# EAGLE library part AEM10330 (library AEM10330-EAGLE)
Ambient Energy Manager from e-peas
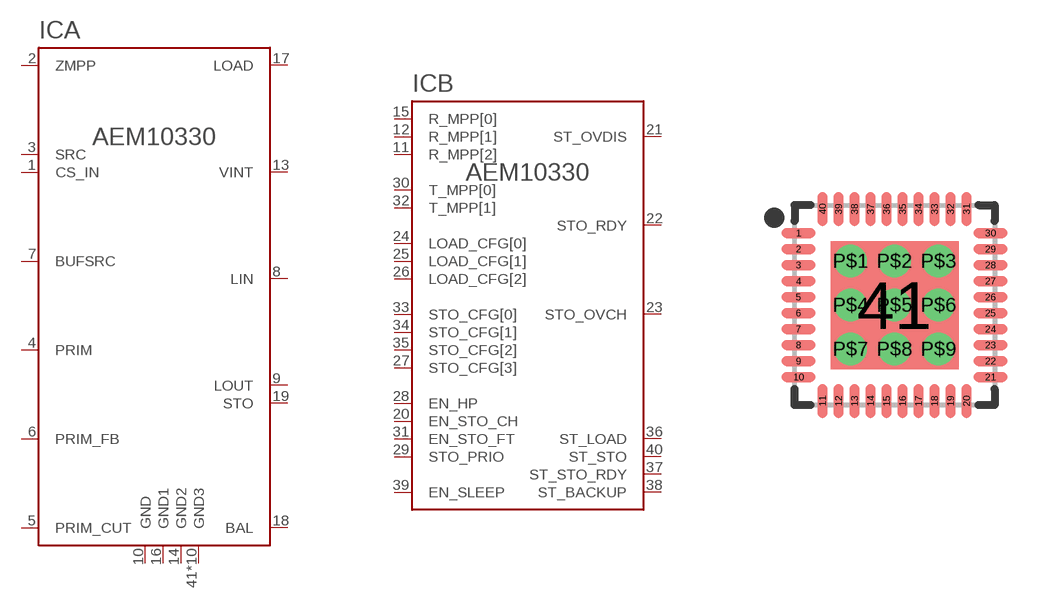
[diagram p0: symbol with the pads of QFN40P5X5; footprint QFN40P5X5]

Designator prefix IC; gates A=AEM10330_A B=AEM10330_B

## AEM10330  [QFN40P5X5]
1  A:CS_IN
2  A:ZMPP
3  A:SRC
4  A:PRIM
5  A:PRIM_CUT
6  A:PRIM_FB
7  A:BUFSRC
8  A:LIN
9  A:LOUT
10  A:GND
11  B:R_MPP[2]
12  B:R_MPP[1]
13  A:VINT
14  A:GND2
15  B:R_MPP[0]
16  A:GND1
17  A:LOAD
18  A:BAL
19  A:STO
20  B:EN_STO_CH
21  B:ST_OVDIS
22  B:STO_RDY
23  B:STO_OVCH
24  B:LOAD_CFG[0]
25  B:LOAD_CFG[1]
26  B:LOAD_CFG[2]
27  B:STO_CFG[3]
28  B:EN_HP
29  B:STO_PRIO
30  B:T_MPP[0]
31  B:EN_STO_FT
32  B:T_MPP[1]
33  B:STO_CFG[0]
34  B:STO_CFG[1]
35  B:STO_CFG[2]
36  B:ST_LOAD
37  B:ST_STO_RDY
38  B:ST_BACKUP
39  B:EN_SLEEP
40  B:ST_STO
41  A:GND3
P$1  A:GND3
P$2  A:GND3
P$3  A:GND3
P$4  A:GND3
P$5  A:GND3
P$6  A:GND3
P$7  A:GND3
P$8  A:GND3
P$9  A:GND3

## Footprint QFN40P5X5 (pad centres in mm)
40-QFN, 0.4mm pitch, 5x5x0.8mm body
smd 0.85 x 0.25: 1 -2.4,1.8; 2 -2.4,1.4; 3 -2.4,1; 4 -2.4,0.6; 5 -2.4,0.2; 6 -2.4,-0.2; 7 -2.4,-0.6; 8 -2.4,-1; 9 -2.4,-1.4; 10 -2.4,-1.8; 21 2.4,-1.8; 22 2.4,-1.4; 23 2.4,-1; 24 2.4,-0.6; 25 2.4,-0.2; 26 2.4,0.2; 27 2.4,0.6; 28 2.4,1; 29 2.4,1.4; 30 2.4,1.8
smd 0.25 x 0.85: 11 -1.8,-2.4; 12 -1.4,-2.4; 13 -1,-2.4; 14 -0.6,-2.4; 15 -0.2,-2.4; 16 0.2,-2.4; 17 0.6,-2.4; 18 1,-2.4; 19 1.4,-2.4; 20 1.8,-2.4; 31 1.8,2.4; 32 1.4,2.4; 33 1,2.4; 34 0.6,2.4; 35 0.2,2.4; 36 -0.2,2.4; 37 -0.6,2.4; 38 -1,2.4; 39 -1.4,2.4; 40 -1.8,2.4
smd 3.2 x 3.2: 41 0,0
drill 0.3 pad 0.7: P$1 -1.1,1.1; P$2 0,1.1; P$3 1.1,1.1; P$4 -1.1,0; P$5 0,0; P$6 1.1,0; P$7 -1.1,-1.1; P$8 0,-1.1; P$9 1.1,-1.1